# EAGLE library part BALUN_CC2500_JOHNSON_TECH (library Taylor)
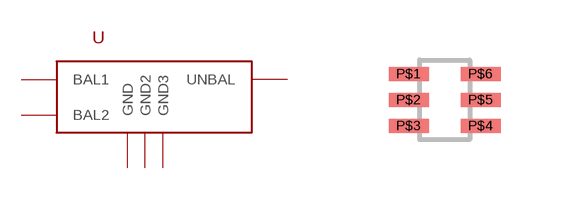
[diagram p41: symbol with the pads of BALUN_0805_JOHANSON_TECH; footprint BALUN_0805_JOHANSON_TECH]

Designator prefix U

## BALUN_CC2500_JOHNSON_TECH  [BALUN_0805_JOHANSON_TECH]
P$1  UNBAL
P$2  GND
P$3  BAL1
P$4  BAL2
P$5  GND2
P$6  GND3

## Footprint BALUN_0805_JOHANSON_TECH (pad centres in mm)
smd 1 x 0.35: P$1 -0.9,0.65; P$2 -0.9,0; P$3 -0.9,-0.65; P$4 0.9,-0.65; P$5 0.9,0; P$6 0.9,0.65